# Altium schematic symbol library REED_RELAY_HE3600_SERIES.Schlib: 1 symbol
Pins are listed as number, name and electrical type; pins without a type are passive.

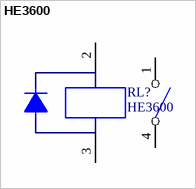
[diagram p0: symbol HE3600]

## HE3600
designator RL?
pins: 1 NA, 2 B1, 3 B2, 4 C